# Altium integrated library Micron Memory Parallel NOR Flash.IntLib: 720 symbols (part 153 of 216)
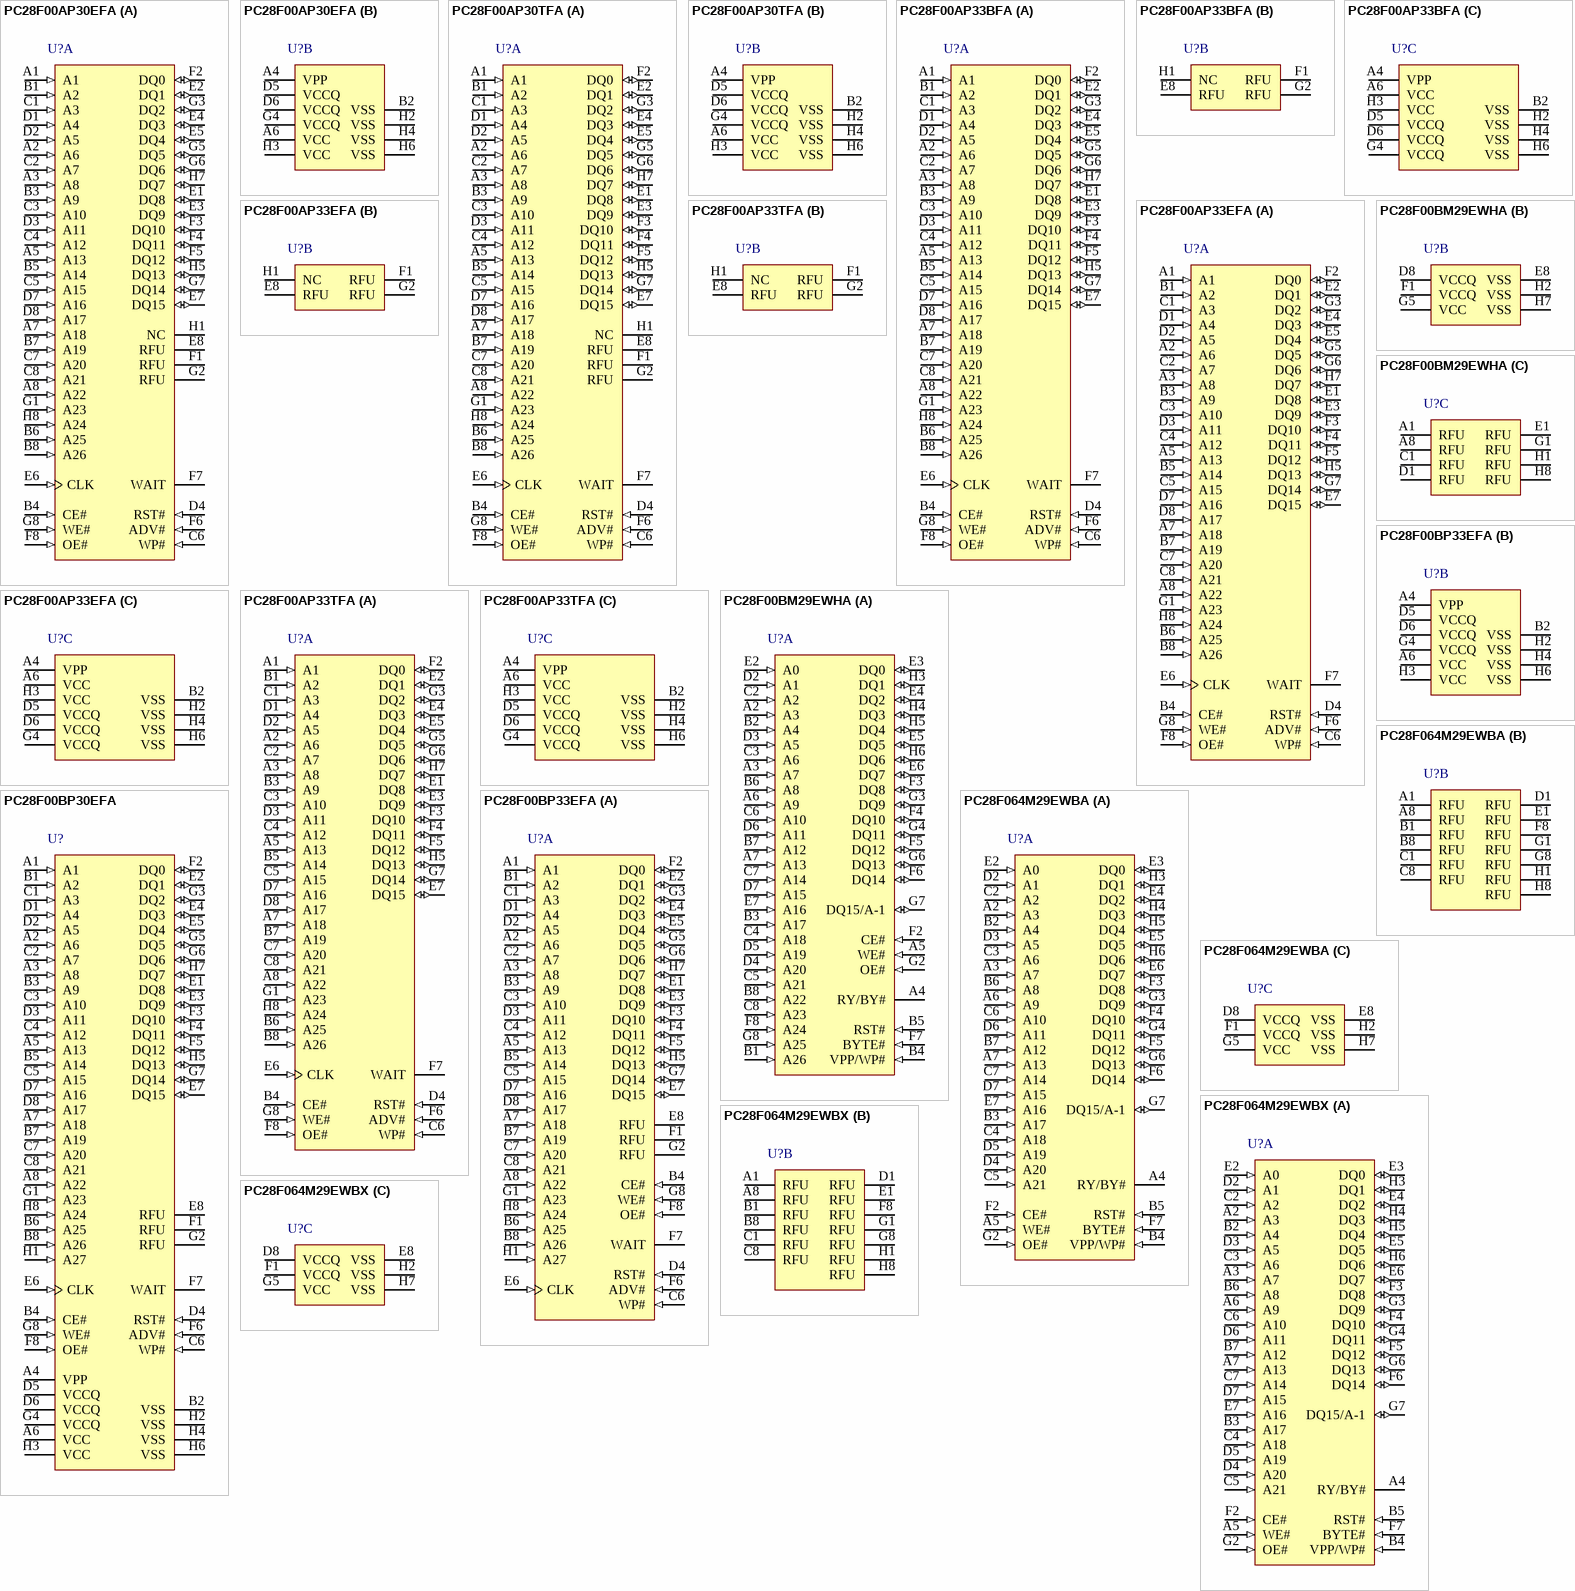
[diagram p187: symbols PC28F00AP30EFA to PC28F064M29EWBX]

## PC28F00AP30EFA
designator U?
1 Gb (x16) Parallel NOR Flash Memory, 100 ns, 1.7 to 2.0 V, 64-ball Easy BGA (PC), Tray; Part Family: P30; Manufacturer: Micron; PartNumber: PC28F00AP30EFA; Density: 1Gb; Op Temp: -40C to +85C; Speed: 100ns; Voltage: 1.7V-2.0V; DatasheetVersion: Rev.05; PackageVersion: Rev. 5; PackageReference: MICT-PC-64-8000X10000X1200DEA; PackageDescription: 64-Ball BGA, 8 x 10 mm, Pitch 1 mm; RoHS: Yes; Width: x16; Mounting Technology: Surface Mount; ComponentLink1Description: Manufacturer URL; ComponentLink1URL: http://www.micron.com/; ComponentLink2Description: Datasheet; ComponentLink2URL: http://www.micron.com/~/media/Documents/Products/Data%20Sheet/NOR%20Flash/Parallel/P30/208042_P30_65nm_MLC_512M_1G_Discrete_2G_Stack_DS.pdf; ComponentLink3Description: Package Specification; ComponentLink3URL: http://www.micron.com/~/media/Documents/Products/Data%20Sheet/NOR%20Flash/Parallel/P33/314749_P33_130nm_Discrete_DS.pdf
footprint MICT-PC-64-8000X10000X1200DEA (BGA, 64-Balls, Body 10x8mm, Pitch 1mm)
part A pins: A1 (in) "ADDRESS INPUTS: Device address inputs. 512-Mbit: A[25:1], 1-Gbit: A[26:1], 2-Gbit: A[27:1]. Note: The virtual selection of the upper 1-Gbit die in the dual-die 2-Gbit configuration is accomplished by setting A27 high (VIH).", A2 A6 (in) "ADDRESS INPUTS: Device address inputs. 512-Mbit: A[25:1], 1-Gbit: A[26:1], 2-Gbit: A[27:1]. Note: The virtual selection of the upper 1-Gbit die in the dual-die 2-Gbit configuration is accomplished by setting A27 high (VIH).", A3 A8 (in) "ADDRESS INPUTS: Device address inputs. 512-Mbit: A[25:1], 1-Gbit: A[26:1], 2-Gbit: A[27:1]. Note: The virtual selection of the upper 1-Gbit die in the dual-die 2-Gbit configuration is accomplished by setting A27 high (VIH).", A5 A13 (in) "ADDRESS INPUTS: Device address inputs. 512-Mbit: A[25:1], 1-Gbit: A[26:1], 2-Gbit: A[27:1]. Note: The virtual selection of the upper 1-Gbit die in the dual-die 2-Gbit configuration is accomplished by setting A27 high (VIH).", A7 A18 (in) "Address Input: Device Address Input. 512-Mbit: A[25:1], 1-Gbit: A[26:1], 2-Gbit: A[27:1]. Note: The virtual selection of the upper 1-Gbit die in the dual-die 2-Gbit configuration is accomplished by setting A27 high (VIH).", A8 A22 (in) "Address Input: Device Address Input. 512-Mbit: A[25:1], 1-Gbit: A[26:1], 2-Gbit: A[27:1]. Note: The virtual selection of the upper 1-Gbit die in the dual-die 2-Gbit configuration is accomplished by setting A27 high (VIH).", B1 A2 (in) "ADDRESS INPUTS: Device Address Input. 512-Mbit: A[25:1], 1-Gbit: A[26:1], 2-Gbit: A[27:1]. Note: The virtual selection of the upper 1-Gbit die in the dual-die 2-Gbit configuration is accomplished by setting A27 high (VIH).", B3 A9 (in) "ADDRESS INPUTS: Device address inputs. 512-Mbit: A[25:1], 1-Gbit: A[26:1], 2-Gbit: A[27:1]. Note: The virtual selection of the upper 1-Gbit die in the dual-die 2-Gbit configuration is accomplished by setting A27 high (VIH).", B4 CE# (in) "CHIP ENABLE: Active low input. CE# low selects the associated flash memory die. When asserted, flash internal control logic, input buffers, decoders, and sense amplifiers are active. When deasserted, the associated flash die (See Datasheet)", B5 A14 (in) "ADDRESS INPUTS: Device address inputs. 512-Mbit: A[25:1], 1-Gbit: A[26:1], 2-Gbit: A[27:1]. Note: The virtual selection of the upper 1-Gbit die in the dual-die 2-Gbit configuration is accomplished by setting A27 high (VIH).", B6 A25 (in) "Address Input: Device Address Input. 512-Mbit: A[25:1], 1-Gbit: A[26:1], 2-Gbit: A[27:1]. Note: The virtual selection of the upper 1-Gbit die in the dual-die 2-Gbit configuration is accomplished by setting A27 high (VIH).", B7 A19 (in) "Address Input: Device Address Input. 512-Mbit: A[25:1], 1-Gbit: A[26:1], 2-Gbit: A[27:1]. Note: The virtual selection of the upper 1-Gbit die in the dual-die 2-Gbit configuration is accomplished by setting A27 high (VIH).", B8 A26 (in) "Address Input: Device Address Input. 512-Mbit: A[25:1], 1-Gbit: A[26:1], 2-Gbit: A[27:1]. Note: The virtual selection of the upper 1-Gbit die in the dual-die 2-Gbit configuration is accomplished by setting A27 high (VIH).", C1 A3 (in) "ADDRESS INPUTS: Device address inputs. 512-Mbit: A[25:1], 1-Gbit: A[26:1], 2-Gbit: A[27:1]. Note: The virtual selection of the upper 1-Gbit die in the dual-die 2-Gbit configuration is accomplished by setting A27 high (VIH).", C2 A7 (in) "ADDRESS INPUTS: Device address inputs. 512-Mbit: A[25:1], 1-Gbit: A[26:1], 2-Gbit: A[27:1]. Note: The virtual selection of the upper 1-Gbit die in the dual-die 2-Gbit configuration is accomplished by setting A27 high (VIH).", C3 A10 (in) "ADDRESS INPUTS: Device address inputs. 512-Mbit: A[25:1], 1-Gbit: A[26:1], 2-Gbit: A[27:1]. Note: The virtual selection of the upper 1-Gbit die in the dual-die 2-Gbit configuration is accomplished by setting A27 high (VIH).", C4 A12 (in) "ADDRESS INPUTS: Device address inputs. 512-Mbit: A[25:1], 1-Gbit: A[26:1], 2-Gbit: A[27:1]. Note: The virtual selection of the upper 1-Gbit die in the dual-die 2-Gbit configuration is accomplished by setting A27 high (VIH).", C5 A15 (in) "Address Input: Device Address Input. 512-Mbit: A[25:1], 1-Gbit: A[26:1], 2-Gbit: A[27:1]. Note: The virtual selection of the upper 1-Gbit die in the dual-die 2-Gbit configuration is accomplished by setting A27 high (VIH).", C6 WP# (in) "WRITE PROTECT: Active low input. WP# low enables the lock-down mechanism. Blocks in lockdown cannot be unlocked with the Unlock command. WP# high overrides the lock-down function enabling blocks to be erased or programmed (See Datasheet)", C7 A20 (in) "Address Input: Device Address Input. 512-Mbit: A[25:1], 1-Gbit: A[26:1], 2-Gbit: A[27:1]. Note: The virtual selection of the upper 1-Gbit die in the dual-die 2-Gbit configuration is accomplished by setting A27 high (VIH).", C8 A21 (in) "Address Input: Device Address Input. 512-Mbit: A[25:1], 1-Gbit: A[26:1], 2-Gbit: A[27:1]. Note: The virtual selection of the upper 1-Gbit die in the dual-die 2-Gbit configuration is accomplished by setting A27 high (VIH).", D1 A4 (in) "ADDRESS INPUTS: Device address inputs. 512-Mbit: A[25:1], 1-Gbit: A[26:1], 2-Gbit: A[27:1]. Note: The virtual selection of the upper 1-Gbit die in the dual-die 2-Gbit configuration is accomplished by setting A27 high (VIH).", D2 A5 (in) "ADDRESS INPUTS: Device address inputs. 512-Mbit: A[25:1], 1-Gbit: A[26:1], 2-Gbit: A[27:1]. Note: The virtual selection of the upper 1-Gbit die in the dual-die 2-Gbit configuration is accomplished by setting A27 high (VIH).", D3 A11 (in) "ADDRESS INPUTS: Device address inputs. 512-Mbit: A[25:1], 1-Gbit: A[26:1], 2-Gbit: A[27:1]. Note: The virtual selection of the upper 1-Gbit die in the dual-die 2-Gbit configuration is accomplished by setting A27 high (VIH).", D4 RST# (in) "RESET: Active low input. RST# resets internal automation and inhibits write operations. This provides data protection during power transitions. RST# high enables normal operation. Exit from reset places the device in (See Datasheet)", D7 A16 (in) "Address Input: Device Address Input. 512-Mbit: A[25:1], 1-Gbit: A[26:1], 2-Gbit: A[27:1]. Note: The virtual selection of the upper 1-Gbit die in the dual-die 2-Gbit configuration is accomplished by setting A27 high (VIH).", D8 A17 (in) "Address Input: Device Address Input. 512-Mbit: A[25:1], 1-Gbit: A[26:1], 2-Gbit: A[27:1]. Note: The virtual selection of the upper 1-Gbit die in the dual-die 2-Gbit configuration is accomplished by setting A27 high (VIH).", E1 DQ8 (io) "DATA INPUT/OUTPUT: Inputs data and commands during write cycles; outputs data during reads of memory, Status Register, OTP Register, and Read Configuration Register. Data pins/balls float when the CE# or OE# are deasserted. (See Datasheet)", E2 DQ1 (io) "DATA INPUT/Output: Inputs data and commands during write cycles; Output data during reads of memory, Status Register, OTP Register, and Read Configuration Register. Data pins/balls float when the CE# or OE# are deasserted. (See Datasheet)", E3 DQ9 (io) "DATA INPUT/OUTPUT: Inputs data and commands during write cycles; outputs data during reads of memory, Status Register, OTP Register, and Read Configuration Register. Data pins/balls float when the CE# or OE# are deasserted. (See Datasheet)", E4 DQ3 (io) "DATA INPUT/OUTPUT: input data and commands during write cycles; outputs data during reads of memory, Status Register, OTP Register, and Read Configuration Register. Data pins/balls float when the CE# or OE# are deasserted. (See Datasheet)", E5 DQ4 (io) "DATA INPUT/OUTPUT: INPUT data and commands during write cycles; OUTPUT data during reads of memory, Status Register, OTP Register, and Read Configuration Register. Data pins/balls float when the CE# or OE# are deasserted. (See Datasheet)", E6 CLK (in) "CLOCK: Synchronizes the device with the system’s bus frequency in synchronous-read mode. During synchronous read operations, addresses are latched on the rising edge of ADV#, or on the next valid CLK edge with ADV# low, (See Datasheet)", E7 DQ15 (io) "DATA INPUT/OUTPUT: Inputs data and commands during write cycles; outputs data during reads of memory, Status Register, OTP Register, and Read Configuration Register. Data pins/balls float when the CE# or OE# are deasserted. (See Datasheet)", E8 RFU "RESERVED FOR FUTURE USE: Reserved by Numonyx for future device functionality and enhancement. These should be treated in the same way as a Don’t Use (DU) signal.", F1 RFU "RESERVED FOR FUTURE USE: Reserved by Numonyx for future device functionality and enhancement. These should be treated in the same way as a Don’t Use (DU) signal.", F2 DQ0 (io) "DATA INPUT/Output: Input data and commands during write cycles; Output data during reads of memory, Status Register, OTP Register, and Read Configuration Register. Data pins/balls float when the CE# or OE# are deasserted. (See Datasheet)", F3 DQ10 (io) "DATA INPUT/OUTPUT: Inputs data and commands during write cycles; outputs data during reads of memory, Status Register, OTP Register, and Read Configuration Register. Data pins/balls float when the CE# or OE# are deasserted. (See Datasheet)", F4 DQ11 (io) "DATA INPUT/OUTPUTS: Inputs data and commands during write cycles; outputs data during reads of memory, Status Register, OTP Register, and Read Configuration Register. Data pins/balls float when the CE# or OE# are deasserted. (See Datasheet)", F5 DQ12 (io) "DATA INPUT/OUTPUT: Inputs data and commands during write cycles; outputs data during reads of memory, Status Register, OTP Register, and Read Configuration Register. Data pins/balls float when the CE# or OE# are deasserted. (See Datasheet)", F6 ADV# (in) "ADDRESS VALID: Active low input. Easy BGA: During synchronous read operations, addresses are latched on the rising edge of ADV#, or on the next valid CLK edge with ADV# low, whichever occurs first. In asynchronous mode, ADV# (See Datasheet)", F7 WAIT (hiz) "WAIT: Indicates data valid in synchronous array or non-array burst reads. RCR.10, (WT) determines its polarity when asserted. WAIT’s active output is VOL or VOH when CE# and OE# are VIL. WAIT is high-Z if CE# or OE# is VIH. (See Datasheet)", F8 OE# (in) "OUTPUT ENABLE: Active low input. OE# low enables the device’s output data buffers during read cycles. OE# high places the data outputs and WAIT in High-Z.", G1 A23 (in) "Address Input: Device Address Input. 512-Mbit: A[25:1], 1-Gbit: A[26:1], 2-Gbit: A[27:1]. Note: The virtual selection of the upper 1-Gbit die in the dual-die 2-Gbit configuration is accomplished by setting A27 high (VIH).", G2 RFU "RESERVED FOR FUTURE USE: Reserved by Numonyx for future device functionality and enhancement. These should be treated in the same way as a Don’t Use (DU) signal.", G3 DQ2 (io) "DATA INPUT/OUTPUTS: Inputs data and commands during write cycles; outputs data during reads of memory, Status Register, OTP Register, and Read Configuration Register. Data pins/balls float when the CE# or OE# are deasserted. (See Datasheet)", G5 DQ5 (io) "DATA INPUT/OUTPUT: Inputs data and commands during write cycles; outputs data during reads of memory, Status Register, OTP Register, and Read Configuration Register. Data pins/balls float when the CE# or OE# are deasserted. (See Datasheet)", G6 DQ6 (io) "DATA INPUT/OUTPUT: Inputs data and commands during write cycles; outputs data during reads of memory, Status Register, OTP Register, and Read Configuration Register. Data pins/balls float when the CE# or OE# are deasserted. (See Datasheet)", G7 DQ14 (io) "DATA INPUT/OUTPUT: Inputs data and commands during write cycles; outputs data during reads of memory, Status Register, OTP Register, and Read Configuration Register. Data pins/balls float when the CE# or OE# are deasserted. (See Datasheet)", G8 WE# (in) "WRITE ENABLE: Active low input. WE# controls writes to the device. Address and data are latched on the rising edge of WE#.", H1 NC "No connect.", H5 DQ13 (io) "DATA INPUT/OUTPUT: Inputs data and commands during write cycles; outputs data during reads of memory, Status Register, OTP Register, and Read Configuration Register. Data pins/balls float when the CE# or OE# are deasserted. (See Datasheet)", H7 DQ7 (io) "DATA INPUT/OUTPUT: Inputs data and commands during write cycles; outputs data during reads of memory, Status Register, OTP Register, and Read Configuration Register. Data pins/balls float when the CE# or OE# are deasserted. (See Datasheet)", H8 A24 (in) "Address Input: Device Address Input. 512-Mbit: A[25:1], 1-Gbit: A[26:1], 2-Gbit: A[27:1]. Note: The virtual selection of the upper 1-Gbit die in the dual-die 2-Gbit configuration is accomplished by setting A27 high (VIH)."
part B pins: A4 VPP (power) "ERASE AND PROGRAM POWER: A valid voltage on this pin allows erasing or programming. Memory contents cannot be altered when VPP =< VPPLK. Block erase and program at invalid VPP voltages should not be attempted. Set VPP = VPPL (See Datasheet)", A6 VCC (power) "DEVICE CORE POWER SUPPLY: Core (logic) source voltage. Writes to the flash array are inhibited when VCC =< VLKO. Operations at invalid VCC voltages should not be attempted.", B2 VSS (power) "GROUND: Connect to system ground. Do not float any VSS connection.", D5 VCCQ (power) "OUTPUT POWER SUPPLY: Output-driver source voltage.", D6 VCCQ (power) "OUTPUT POWER SUPPLY: Output-driver source voltage.", G4 VCCQ (power) "OUTPUT POWER SUPPLY: Output-driver source voltage.", H2 VSS (power) "GROUND: Connect to system ground. Do not float any VSS connection.", H3 VCC (power) "DEVICE CORE POWER SUPPLY: Core (logic) source voltage. Writes to the flash array are inhibited when VCC =< VLKO. Operations at invalid VCC voltages should not be attempted.", H4 VSS (power) "GROUND: Connect to system ground. Do not float any VSS connection.", H6 VSS (power) "GROUND: Connect to system ground. Do not float any VSS connection."

## PC28F00AP30TFA
designator U?
1 Gb (x16) Parallel NOR Flash Memory, 100 ns, 1.7 to 2.0 V, 64-ball Easy BGA (PC), Tray; Part Family: P30; Manufacturer: Micron; PartNumber: PC28F00AP30TFA; Density: 1Gb; Op Temp: -40C to +85C; Speed: 100ns; Voltage: 1.7V-2.0V; DatasheetVersion: Rev.05; PackageVersion: Rev. 5; PackageReference: MICT-PC-64-8000X10000X1200DEA; PackageDescription: 64-Ball BGA, 8 x 10 mm, Pitch 1 mm; RoHS: Yes; Width: x16; Mounting Technology: Surface Mount; ComponentLink1Description: Manufacturer URL; ComponentLink1URL: http://www.micron.com/; ComponentLink2Description: Datasheet; ComponentLink2URL: http://www.micron.com/~/media/Documents/Products/Data%20Sheet/NOR%20Flash/Parallel/P30/208042_P30_65nm_MLC_512M_1G_Discrete_2G_Stack_DS.pdf; ComponentLink3Description: Package Specification; ComponentLink3URL: http://www.micron.com/~/media/Documents/Products/Data%20Sheet/NOR%20Flash/Parallel/P33/314749_P33_130nm_Discrete_DS.pdf
footprint MICT-PC-64-8000X10000X1200DEA (BGA, 64-Balls, Body 10x8mm, Pitch 1mm)
part A pins: A1 (in) "ADDRESS INPUTS: Device address inputs. 512-Mbit: A[25:1], 1-Gbit: A[26:1], 2-Gbit: A[27:1]. Note: The virtual selection of the upper 1-Gbit die in the dual-die 2-Gbit configuration is accomplished by setting A27 high (VIH).", A2 A6 (in) "ADDRESS INPUTS: Device address inputs. 512-Mbit: A[25:1], 1-Gbit: A[26:1], 2-Gbit: A[27:1]. Note: The virtual selection of the upper 1-Gbit die in the dual-die 2-Gbit configuration is accomplished by setting A27 high (VIH).", A3 A8 (in) "ADDRESS INPUTS: Device address inputs. 512-Mbit: A[25:1], 1-Gbit: A[26:1], 2-Gbit: A[27:1]. Note: The virtual selection of the upper 1-Gbit die in the dual-die 2-Gbit configuration is accomplished by setting A27 high (VIH).", A5 A13 (in) "ADDRESS INPUTS: Device address inputs. 512-Mbit: A[25:1], 1-Gbit: A[26:1], 2-Gbit: A[27:1]. Note: The virtual selection of the upper 1-Gbit die in the dual-die 2-Gbit configuration is accomplished by setting A27 high (VIH).", A7 A18 (in) "Address Input: Device Address Input. 512-Mbit: A[25:1], 1-Gbit: A[26:1], 2-Gbit: A[27:1]. Note: The virtual selection of the upper 1-Gbit die in the dual-die 2-Gbit configuration is accomplished by setting A27 high (VIH).", A8 A22 (in) "Address Input: Device Address Input. 512-Mbit: A[25:1], 1-Gbit: A[26:1], 2-Gbit: A[27:1]. Note: The virtual selection of the upper 1-Gbit die in the dual-die 2-Gbit configuration is accomplished by setting A27 high (VIH).", B1 A2 (in) "ADDRESS INPUTS: Device Address Input. 512-Mbit: A[25:1], 1-Gbit: A[26:1], 2-Gbit: A[27:1]. Note: The virtual selection of the upper 1-Gbit die in the dual-die 2-Gbit configuration is accomplished by setting A27 high (VIH).", B3 A9 (in) "ADDRESS INPUTS: Device address inputs. 512-Mbit: A[25:1], 1-Gbit: A[26:1], 2-Gbit: A[27:1]. Note: The virtual selection of the upper 1-Gbit die in the dual-die 2-Gbit configuration is accomplished by setting A27 high (VIH).", B4 CE# (in) "CHIP ENABLE: Active low input. CE# low selects the associated flash memory die. When asserted, flash internal control logic, input buffers, decoders, and sense amplifiers are active. When deasserted, the associated flash die (See Datasheet)", B5 A14 (in) "ADDRESS INPUTS: Device address inputs. 512-Mbit: A[25:1], 1-Gbit: A[26:1], 2-Gbit: A[27:1]. Note: The virtual selection of the upper 1-Gbit die in the dual-die 2-Gbit configuration is accomplished by setting A27 high (VIH).", B6 A25 (in) "Address Input: Device Address Input. 512-Mbit: A[25:1], 1-Gbit: A[26:1], 2-Gbit: A[27:1]. Note: The virtual selection of the upper 1-Gbit die in the dual-die 2-Gbit configuration is accomplished by setting A27 high (VIH).", B7 A19 (in) "Address Input: Device Address Input. 512-Mbit: A[25:1], 1-Gbit: A[26:1], 2-Gbit: A[27:1]. Note: The virtual selection of the upper 1-Gbit die in the dual-die 2-Gbit configuration is accomplished by setting A27 high (VIH).", B8 A26 (in) "Address Input: Device Address Input. 512-Mbit: A[25:1], 1-Gbit: A[26:1], 2-Gbit: A[27:1]. Note: The virtual selection of the upper 1-Gbit die in the dual-die 2-Gbit configuration is accomplished by setting A27 high (VIH).", C1 A3 (in) "ADDRESS INPUTS: Device address inputs. 512-Mbit: A[25:1], 1-Gbit: A[26:1], 2-Gbit: A[27:1]. Note: The virtual selection of the upper 1-Gbit die in the dual-die 2-Gbit configuration is accomplished by setting A27 high (VIH).", C2 A7 (in) "ADDRESS INPUTS: Device address inputs. 512-Mbit: A[25:1], 1-Gbit: A[26:1], 2-Gbit: A[27:1]. Note: The virtual selection of the upper 1-Gbit die in the dual-die 2-Gbit configuration is accomplished by setting A27 high (VIH).", C3 A10 (in) "ADDRESS INPUTS: Device address inputs. 512-Mbit: A[25:1], 1-Gbit: A[26:1], 2-Gbit: A[27:1]. Note: The virtual selection of the upper 1-Gbit die in the dual-die 2-Gbit configuration is accomplished by setting A27 high (VIH).", C4 A12 (in) "ADDRESS INPUTS: Device address inputs. 512-Mbit: A[25:1], 1-Gbit: A[26:1], 2-Gbit: A[27:1]. Note: The virtual selection of the upper 1-Gbit die in the dual-die 2-Gbit configuration is accomplished by setting A27 high (VIH).", C5 A15 (in) "Address Input: Device Address Input. 512-Mbit: A[25:1], 1-Gbit: A[26:1], 2-Gbit: A[27:1]. Note: The virtual selection of the upper 1-Gbit die in the dual-die 2-Gbit configuration is accomplished by setting A27 high (VIH).", C6 WP# (in) "WRITE PROTECT: Active low input. WP# low enables the lock-down mechanism. Blocks in lockdown cannot be unlocked with the Unlock command. WP# high overrides the lock-down function enabling blocks to be erased or programmed (See Datasheet)", C7 A20 (in) "Address Input: Device Address Input. 512-Mbit: A[25:1], 1-Gbit: A[26:1], 2-Gbit: A[27:1]. Note: The virtual selection of the upper 1-Gbit die in the dual-die 2-Gbit configuration is accomplished by setting A27 high (VIH).", C8 A21 (in) "Address Input: Device Address Input. 512-Mbit: A[25:1], 1-Gbit: A[26:1], 2-Gbit: A[27:1]. Note: The virtual selection of the upper 1-Gbit die in the dual-die 2-Gbit configuration is accomplished by setting A27 high (VIH).", D1 A4 (in) "ADDRESS INPUTS: Device address inputs. 512-Mbit: A[25:1], 1-Gbit: A[26:1], 2-Gbit: A[27:1]. Note: The virtual selection of the upper 1-Gbit die in the dual-die 2-Gbit configuration is accomplished by setting A27 high (VIH).", D2 A5 (in) "ADDRESS INPUTS: Device address inputs. 512-Mbit: A[25:1], 1-Gbit: A[26:1], 2-Gbit: A[27:1]. Note: The virtual selection of the upper 1-Gbit die in the dual-die 2-Gbit configuration is accomplished by setting A27 high (VIH).", D3 A11 (in) "ADDRESS INPUTS: Device address inputs. 512-Mbit: A[25:1], 1-Gbit: A[26:1], 2-Gbit: A[27:1]. Note: The virtual selection of the upper 1-Gbit die in the dual-die 2-Gbit configuration is accomplished by setting A27 high (VIH).", D4 RST# (in) "RESET: Active low input. RST# resets internal automation and inhibits write operations. This provides data protection during power transitions. RST# high enables normal operation. Exit from reset places the device in (See Datasheet)", D7 A16 (in) "Address Input: Device Address Input. 512-Mbit: A[25:1], 1-Gbit: A[26:1], 2-Gbit: A[27:1]. Note: The virtual selection of the upper 1-Gbit die in the dual-die 2-Gbit configuration is accomplished by setting A27 high (VIH).", D8 A17 (in) "Address Input: Device Address Input. 512-Mbit: A[25:1], 1-Gbit: A[26:1], 2-Gbit: A[27:1]. Note: The virtual selection of the upper 1-Gbit die in the dual-die 2-Gbit configuration is accomplished by setting A27 high (VIH).", E1 DQ8 (io) "DATA INPUT/OUTPUT: Inputs data and commands during write cycles; outputs data during reads of memory, Status Register, OTP Register, and Read Configuration Register. Data pins/balls float when the CE# or OE# are deasserted. (See Datasheet)", E2 DQ1 (io) "DATA INPUT/Output: Inputs data and commands during write cycles; Output data during reads of memory, Status Register, OTP Register, and Read Configuration Register. Data pins/balls float when the CE# or OE# are deasserted. (See Datasheet)", E3 DQ9 (io) "DATA INPUT/OUTPUT: Inputs data and commands during write cycles; outputs data during reads of memory, Status Register, OTP Register, and Read Configuration Register. Data pins/balls float when the CE# or OE# are deasserted. (See Datasheet)", E4 DQ3 (io) "DATA INPUT/OUTPUT: input data and commands during write cycles; outputs data during reads of memory, Status Register, OTP Register, and Read Configuration Register. Data pins/balls float when the CE# or OE# are deasserted. (See Datasheet)", E5 DQ4 (io) "DATA INPUT/OUTPUT: INPUT data and commands during write cycles; OUTPUT data during reads of memory, Status Register, OTP Register, and Read Configuration Register. Data pins/balls float when the CE# or OE# are deasserted. (See Datasheet)", E6 CLK (in) "CLOCK: Synchronizes the device with the system’s bus frequency in synchronous-read mode. During synchronous read operations, addresses are latched on the rising edge of ADV#, or on the next valid CLK edge with ADV# low, (See Datasheet)", E7 DQ15 (io) "DATA INPUT/OUTPUT: Inputs data and commands during write cycles; outputs data during reads of memory, Status Register, OTP Register, and Read Configuration Register. Data pins/balls float when the CE# or OE# are deasserted. (See Datasheet)", E8 RFU "RESERVED FOR FUTURE USE: Reserved by Numonyx for future device functionality and enhancement. These should be treated in the same way as a Don’t Use (DU) signal.", F1 RFU "RESERVED FOR FUTURE USE: Reserved by Numonyx for future device functionality and enhancement. These should be treated in the same way as a Don’t Use (DU) signal.", F2 DQ0 (io) "DATA INPUT/Output: Input data and commands during write cycles; Output data during reads of memory, Status Register, OTP Register, and Read Configuration Register. Data pins/balls float when the CE# or OE# are deasserted. (See Datasheet)", F3 DQ10 (io) "DATA INPUT/OUTPUT: Inputs data and commands during write cycles; outputs data during reads of memory, Status Register, OTP Register, and Read Configuration Register. Data pins/balls float when the CE# or OE# are deasserted. (See Datasheet)", F4 DQ11 (io) "DATA INPUT/OUTPUTS: Inputs data and commands during write cycles; outputs data during reads of memory, Status Register, OTP Register, and Read Configuration Register. Data pins/balls float when the CE# or OE# are deasserted. (See Datasheet)", F5 DQ12 (io) "DATA INPUT/OUTPUT: Inputs data and commands during write cycles; outputs data during reads of memory, Status Register, OTP Register, and Read Configuration Register. Data pins/balls float when the CE# or OE# are deasserted. (See Datasheet)", F6 ADV# (in) "ADDRESS VALID: Active low input. Easy BGA: During synchronous read operations, addresses are latched on the rising edge of ADV#, or on the next valid CLK edge with ADV# low, whichever occurs first. In asynchronous mode, ADV# (See Datasheet)", F7 WAIT (hiz) "WAIT: Indicates data valid in synchronous array or non-array burst reads. RCR.10, (WT) determines its polarity when asserted. WAIT’s active output is VOL or VOH when CE# and OE# are VIL. WAIT is high-Z if CE# or OE# is VIH. (See Datasheet)", F8 OE# (in) "OUTPUT ENABLE: Active low input. OE# low enables the device’s output data buffers during read cycles. OE# high places the data outputs and WAIT in High-Z.", G1 A23 (in) "Address Input: Device Address Input. 512-Mbit: A[25:1], 1-Gbit: A[26:1], 2-Gbit: A[27:1]. Note: The virtual selection of the upper 1-Gbit die in the dual-die 2-Gbit configuration is accomplished by setting A27 high (VIH).", G2 RFU "RESERVED FOR FUTURE USE: Reserved by Numonyx for future device functionality and enhancement. These should be treated in the same way as a Don’t Use (DU) signal.", G3 DQ2 (io) "DATA INPUT/OUTPUTS: Inputs data and commands during write cycles; outputs data during reads of memory, Status Register, OTP Register, and Read Configuration Register. Data pins/balls float when the CE# or OE# are deasserted. (See Datasheet)", G5 DQ5 (io) "DATA INPUT/OUTPUT: Inputs data and commands during write cycles; outputs data during reads of memory, Status Register, OTP Register, and Read Configuration Register. Data pins/balls float when the CE# or OE# are deasserted. (See Datasheet)", G6 DQ6 (io) "DATA INPUT/OUTPUT: Inputs data and commands during write cycles; outputs data during reads of memory, Status Register, OTP Register, and Read Configuration Register. Data pins/balls float when the CE# or OE# are deasserted. (See Datasheet)", G7 DQ14 (io) "DATA INPUT/OUTPUT: Inputs data and commands during write cycles; outputs data during reads of memory, Status Register, OTP Register, and Read Configuration Register. Data pins/balls float when the CE# or OE# are deasserted. (See Datasheet)", G8 WE# (in) "WRITE ENABLE: Active low input. WE# controls writes to the device. Address and data are latched on the rising edge of WE#.", H1 NC "No connect.", H5 DQ13 (io) "DATA INPUT/OUTPUT: Inputs data and commands during write cycles; outputs data during reads of memory, Status Register, OTP Register, and Read Configuration Register. Data pins/balls float when the CE# or OE# are deasserted. (See Datasheet)", H7 DQ7 (io) "DATA INPUT/OUTPUT: Inputs data and commands during write cycles; outputs data during reads of memory, Status Register, OTP Register, and Read Configuration Register. Data pins/balls float when the CE# or OE# are deasserted. (See Datasheet)", H8 A24 (in) "Address Input: Device Address Input. 512-Mbit: A[25:1], 1-Gbit: A[26:1], 2-Gbit: A[27:1]. Note: The virtual selection of the upper 1-Gbit die in the dual-die 2-Gbit configuration is accomplished by setting A27 high (VIH)."
part B pins: A4 VPP (power) "ERASE AND PROGRAM POWER: A valid voltage on this pin allows erasing or programming. Memory contents cannot be altered when VPP =< VPPLK. Block erase and program at invalid VPP voltages should not be attempted. Set VPP = VPPL (See Datasheet)", A6 VCC (power) "DEVICE CORE POWER SUPPLY: Core (logic) source voltage. Writes to the flash array are inhibited when VCC =< VLKO. Operations at invalid VCC voltages should not be attempted.", B2 VSS (power) "GROUND: Connect to system ground. Do not float any VSS connection.", D5 VCCQ (power) "OUTPUT POWER SUPPLY: Output-driver source voltage.", D6 VCCQ (power) "OUTPUT POWER SUPPLY: Output-driver source voltage.", G4 VCCQ (power) "OUTPUT POWER SUPPLY: Output-driver source voltage.", H2 VSS (power) "GROUND: Connect to system ground. Do not float any VSS connection.", H3 VCC (power) "DEVICE CORE POWER SUPPLY: Core (logic) source voltage. Writes to the flash array are inhibited when VCC =< VLKO. Operations at invalid VCC voltages should not be attempted.", H4 VSS (power) "GROUND: Connect to system ground. Do not float any VSS connection.", H6 VSS (power) "GROUND: Connect to system ground. Do not float any VSS connection."

## PC28F00AP33BFA
designator U?
1 Gb (x16) Parallel NOR Flash Memory, 95 ns, 2.3 to 3.6 V, 64-ball Easy BGA (PC), Tray; Part Family: P33; Manufacturer: Micron; PartNumber: PC28F00AP33BFA; Density: 1Gb; Op Temp: -40C to +85C; Speed: 95ns; Voltage: 2.3V-3.6V; DatasheetVersion: Rev.05; PackageVersion: Rev. 5; PackageReference: MICT-PC-64-8000X10000X1200DEA; PackageDescription: 64-Ball BGA, 8 x 10 mm, Pitch 1 mm; RoHS: Yes; Width: x16; Mounting Technology: Surface Mount; ComponentLink1Description: Manufacturer URL; ComponentLink1URL: http://www.micron.com/; ComponentLink2Description: Datasheet; ComponentLink2URL: http://www.micron.com/~/media/Documents/Products/Data%20Sheet/NOR%20Flash/Parallel/P33/208043_P33_65nm_MLC_512M_1G_Discrete_2G_Stack_DS.pdf; ComponentLink3Description: Package Specification; ComponentLink3URL: http://www.micron.com/~/media/Documents/Products/Data%20Sheet/NOR%20Flash/Parallel/P33/314749_P33_130nm_Discrete_DS.pdf
footprint MICT-PC-64-8000X10000X1200DEA (BGA, 64-Balls, Body 10x8mm, Pitch 1mm)
part A pins: A1 (in) "Address Input: Device Address Input. 512-Mbit: A[25:1], 1-Gbit: A[26:1], 2-Gbit: A[27:1]. Note: The virtual selection of the upper 1-Gbit die in the dual-die 2-Gbit configuration is accomplished by setting A27 high (VIH).", A2 A6 (in) "Address Input: Device Address Input. 512-Mbit: A[25:1], 1-Gbit: A[26:1], 2-Gbit: A[27:1]. Note: The virtual selection of the upper 1-Gbit die in the dual-die 2-Gbit configuration is accomplished by setting A27 high (VIH).", A3 A8 (in) "Address Input: Device Address Input. 512-Mbit: A[25:1], 1-Gbit: A[26:1], 2-Gbit: A[27:1]. Note: The virtual selection of the upper 1-Gbit die in the dual-die 2-Gbit configuration is accomplished by setting A27 high (VIH).", A5 A13 (in) "Address Input: Device Address Input. 512-Mbit: A[25:1], 1-Gbit: A[26:1], 2-Gbit: A[27:1]. Note: The virtual selection of the upper 1-Gbit die in the dual-die 2-Gbit configuration is accomplished by setting A27 high (VIH).", A7 A18 (in) "Address Input: Device Address Input. 512-Mbit: A[25:1], 1-Gbit: A[26:1], 2-Gbit: A[27:1]. Note: The virtual selection of the upper 1-Gbit die in the dual-die 2-Gbit configuration is accomplished by setting A27 high (VIH).", A8 A22 (in) "Address Input: Device Address Input. 512-Mbit: A[25:1], 1-Gbit: A[26:1], 2-Gbit: A[27:1]. Note: The virtual selection of the upper 1-Gbit die in the dual-die 2-Gbit configuration is accomplished by setting A27 high (VIH).", B1 A2 (in) "Address Input: Device Address Input. 512-Mbit: A[25:1], 1-Gbit: A[26:1], 2-Gbit: A[27:1]. Note: The virtual selection of the upper 1-Gbit die in the dual-die 2-Gbit configuration is accomplished by setting A27 high (VIH).", B3 A9 (in) "Address Input: Device Address Input. 512-Mbit: A[25:1], 1-Gbit: A[26:1], 2-Gbit: A[27:1]. Note: The virtual selection of the upper 1-Gbit die in the dual-die 2-Gbit configuration is accomplished by setting A27 high (VIH).", B4 CE# (in) "CHIP ENABLE: Active low input. CE# low selects the associated flash memory die. When asserted, flash internal control logic, input buffers, decoders, and sense amplifiers are active. When deasserted, the associated flash die (See Datasheet)", B5 A14 (in) "Address Input: Device Address Input. 512-Mbit: A[25:1], 1-Gbit: A[26:1], 2-Gbit: A[27:1]. Note: The virtual selection of the upper 1-Gbit die in the dual-die 2-Gbit configuration is accomplished by setting A27 high (VIH).", B6 A25 (in) "Address Input: Device Address Input. 512-Mbit: A[25:1], 1-Gbit: A[26:1], 2-Gbit: A[27:1]. Note: The virtual selection of the upper 1-Gbit die in the dual-die 2-Gbit configuration is accomplished by setting A27 high (VIH).", B7 A19 (in) "Address Input: Device Address Input. 512-Mbit: A[25:1], 1-Gbit: A[26:1], 2-Gbit: A[27:1]. Note: The virtual selection of the upper 1-Gbit die in the dual-die 2-Gbit configuration is accomplished by setting A27 high (VIH).", B8 A26 (in) "Address Input: Device Address Input. 512-Mbit: A[25:1], 1-Gbit: A[26:1], 2-Gbit: A[27:1]. Note: The virtual selection of the upper 1-Gbit die in the dual-die 2-Gbit configuration is accomplished by setting A27 high (VIH).", C1 A3 (in) "Address Input: Device Address Input. 512-Mbit: A[25:1], 1-Gbit: A[26:1], 2-Gbit: A[27:1]. Note: The virtual selection of the upper 1-Gbit die in the dual-die 2-Gbit configuration is accomplished by setting A27 high (VIH).", C2 A7 (in) "Address Input: Device Address Input. 512-Mbit: A[25:1], 1-Gbit: A[26:1], 2-Gbit: A[27:1]. Note: The virtual selection of the upper 1-Gbit die in the dual-die 2-Gbit configuration is accomplished by setting A27 high (VIH).", C3 A10 (in) "Address Input: Device Address Input. 512-Mbit: A[25:1], 1-Gbit: A[26:1], 2-Gbit: A[27:1]. Note: The virtual selection of the upper 1-Gbit die in the dual-die 2-Gbit configuration is accomplished by setting A27 high (VIH).", C4 A12 (in) "Address Input: Device Address Input. 512-Mbit: A[25:1], 1-Gbit: A[26:1], 2-Gbit: A[27:1]. Note: The virtual selection of the upper 1-Gbit die in the dual-die 2-Gbit configuration is accomplished by setting A27 high (VIH).", C5 A15 (in) "Address Input: Device Address Input. 512-Mbit: A[25:1], 1-Gbit: A[26:1], 2-Gbit: A[27:1]. Note: The virtual selection of the upper 1-Gbit die in the dual-die 2-Gbit configuration is accomplished by setting A27 high (VIH).", C6 WP# (in) "WRITE PROTECT: Active low input. WP# low enables the lock-down mechanism. Blocks in lockdown cannot be unlocked with the Unlock command. WP# high overrides the lock-down function enabling blocks to be erased or programmed (See Datasheet)", C7 A20 (in) "Address Input: Device Address Input. 512-Mbit: A[25:1], 1-Gbit: A[26:1], 2-Gbit: A[27:1]. Note: The virtual selection of the upper 1-Gbit die in the dual-die 2-Gbit configuration is accomplished by setting A27 high (VIH).", C8 A21 (in) "Address Input: Device Address Input. 512-Mbit: A[25:1], 1-Gbit: A[26:1], 2-Gbit: A[27:1]. Note: The virtual selection of the upper 1-Gbit die in the dual-die 2-Gbit configuration is accomplished by setting A27 high (VIH).", D1 A4 (in) "Address Input: Device Address Input. 512-Mbit: A[25:1], 1-Gbit: A[26:1], 2-Gbit: A[27:1]. Note: The virtual selection of the upper 1-Gbit die in the dual-die 2-Gbit configuration is accomplished by setting A27 high (VIH).", D2 A5 (in) "Address Input: Device Address Input. 512-Mbit: A[25:1], 1-Gbit: A[26:1], 2-Gbit: A[27:1]. Note: The virtual selection of the upper 1-Gbit die in the dual-die 2-Gbit configuration is accomplished by setting A27 high (VIH).", D3 A11 (in) "Address Input: Device Address Input. 512-Mbit: A[25:1], 1-Gbit: A[26:1], 2-Gbit: A[27:1]. Note: The virtual selection of the upper 1-Gbit die in the dual-die 2-Gbit configuration is accomplished by setting A27 high (VIH).", D4 RST# (in) "RESET: Active low input. RST# resets internal automation and inhibits write operations. This provides data protection during power transitions. RST# high enables normal operation. Exit from reset places the device in (See Datasheet)", D7 A16 (in) "Address Input: Device Address Input. 512-Mbit: A[25:1], 1-Gbit: A[26:1], 2-Gbit: A[27:1]. Note: The virtual selection of the upper 1-Gbit die in the dual-die 2-Gbit configuration is accomplished by setting A27 high (VIH).", D8 A17 (in) "Address Input: Device Address Input. 512-Mbit: A[25:1], 1-Gbit: A[26:1], 2-Gbit: A[27:1]. Note: The virtual selection of the upper 1-Gbit die in the dual-die 2-Gbit configuration is accomplished by setting A27 high (VIH).", E1 DQ8 (io) "DATA INPUT/OUTPUT: Inputs data and commands during write cycles; outputs data during reads of memory, Status Register, OTP Register, and Read Configuration Register. Data balls/pins float when the CE# or OE# are deasserted. (See Datasheet)", E2 DQ1 (io) "DATA INPUT/Output: Inputs data and commands during write cycles; Output data during reads of memory, Status Register, OTP Register, and Read Configuration Register. Data balls/pins float when the CE# or OE# are deasserted. (See Datasheet)", E3 DQ9 (io) "DATA INPUT/OUTPUT: Inputs data and commands during write cycles; outputs data during reads of memory, Status Register, OTP Register, and Read Configuration Register. Data balls/pins float when the CE# or OE# are deasserted. (See Datasheet)", E4 DQ3 (io) "DATA INPUT/OUTPUT: input data and commands during write cycles; outputs data during reads of memory, Status Register, OTP Register, and Read Configuration Register. Data balls/pins float when the CE# or OE# are deasserted. (See Datasheet)", E5 DQ4 (io) "DATA INPUT/OUTPUT: INPUT data and commands during write cycles; OUTPUT data during reads of memory, Status Register, OTP Register, and Read Configuration Register. Data balls/pins float when the CE# or OE# are deasserted. (See Datasheet)", E6 CLK (in) "CLOCK: Synchronizes the device with the system’s bus frequency in synchronous-read mode. During synchronous read operations, addresses are latched on the rising edge of ADV#, or on the next valid CLK edge with ADV# low, (See Datasheet)", E7 DQ15 (io) "DATA INPUT/OUTPUT: Inputs data and commands during write cycles; outputs data during reads of memory, Status Register, OTP Register, and Read Configuration Register. Data balls/pins float when the CE# or OE# are deasserted. (See Datasheet)", F2 DQ0 (io) "DATA INPUT/Output: Input data and commands during write cycles; Output data during reads of memory, Status Register, OTP Register, and Read Configuration Register. Data balls/pins float when the CE# or OE# are deasserted. (See Datasheet)", F3 DQ10 (io) "DATA INPUT/OUTPUT: Inputs data and commands during write cycles; outputs data during reads of memory, Status Register, OTP Register, and Read Configuration Register. Data balls/pins float when the CE# or OE# are deasserted. (See Datasheet)", F4 DQ11 (io) "DATA INPUT/OUTPUTS: Inputs data and commands during write cycles; outputs data during reads of memory, Status Register, OTP Register, and Read Configuration Register. Data balls/pins float when the CE# or OE# are deasserted. (See Datasheet)", F5 DQ12 (io) "DATA INPUT/OUTPUT: Inputs data and commands during write cycles; outputs data during reads of memory, Status Register, OTP Register, and Read Configuration Register. Data balls/pins float when the CE# or OE# are deasserted. (See Datasheet)", F6 ADV# (in) "ADDRESS VALID: Active low input. Easy BGA: During synchronous read operations, addresses are latched on the rising edge of ADV#, or on the next valid CLK edge with ADV# low, whichever occurs first. In asynchronous mode, ADV# (See Datasheet)", F7 WAIT (hiz) "WAIT: Indicates data valid in synchronous array or non-array burst reads. RCR.10, (WT) determines its polarity when asserted. WAIT’s active output is VOL or VOH when CE# and OE# are VIL. WAIT is high-Z if CE# or OE# is VIH. (See Datasheet)", F8 OE# (in) "OUTPUT ENABLE: Active low input. OE# low enables the device’s output data buffers during read cycles. OE# high places the data outputs and WAIT in High-Z.", G1 A23 (in) "Address Input: Device Address Input. 512-Mbit: A[25:1], 1-Gbit: A[26:1], 2-Gbit: A[27:1]. Note: The virtual selection of the upper 1-Gbit die in the dual-die 2-Gbit configuration is accomplished by setting A27 high (VIH).", G3 DQ2 (io) "DATA INPUT/Output: Input data and commands during write cycles; Output data during reads of memory, Status Register, OTP Register, and Read Configuration Register. Data balls/pins float when the CE# or OE# are deasserted. (See Datasheet)", G5 DQ5 (io) "DATA INPUT/OUTPUT: Inputs data and commands during write cycles; outputs data during reads of memory, Status Register, OTP Register, and Read Configuration Register. Data balls/pins float when the CE# or OE# are deasserted. (See Datasheet)", G6 DQ6 (io) "DATA INPUT/OUTPUT: Inputs data and commands during write cycles; outputs data during", G7 DQ14 (io) "DATA INPUT/OUTPUT: Inputs data and commands during write cycles; outputs data during reads of memory, Status Register, OTP Register, and Read Configuration Register. Data balls/pins float when the CE# or OE# are deasserted. (See Datasheet)", G8 WE# (in) "WRITE ENABLE: Active low input. WE# controls writes to the device. Address and data are latched on the rising edge of WE#.", H5 DQ13 (io) "DATA INPUT/OUTPUT: Inputs data and commands during write cycles; outputs data during reads of memory, Status Register, OTP Register, and Read Configuration Register. Data balls/pins float when the CE# or OE# are deasserted. (See Datasheet)", H7 DQ7 (io) "DATA INPUT/OUTPUT: Inputs data and commands during write cycles; outputs data during reads of memory, Status Register, OTP Register, and Read Configuration Register. Data balls/pins float when the CE# or OE# are deasserted. (See Datasheet)", H8 A24 (in) "Address Input: Device Address Input. 512-Mbit: A[25:1], 1-Gbit: A[26:1], 2-Gbit: A[27:1]. Note: The virtual selection of the upper 1-Gbit die in the dual-die 2-Gbit configuration is accomplished by setting A27 high (VIH)."
part B pins: E8 RFU "RESERVED FOR FUTURE USE: Reserved by Numonyx for future device functionality and enhancement. These should be treated in the same way as a Don’t Use (DU) signal.", F1 RFU "RESERVED FOR FUTURE USE: Reserved by Numonyx for future device functionality and enhancement. These should be treated in the same way as a Don’t Use (DU) signal.", G2 RFU "RESERVED FOR FUTURE USE: Reserved by Numonyx for future device functionality and enhancement. These should be treated in the same way as a Don’t Use (DU) signal.", H1 NC "NO CONNECT: No internal connection; can be driven or floated."
part C pins: A4 VPP (power) "ERASE AND PROGRAM POWER: A valid voltage on this pin allows erasing or programming. Memory contents cannot be altered when VPP =< VPPLK. Block erase and program at invalid VPP voltages should not be attempted. Set VPP = VPPL (See Datasheet)", A6 VCC (power) "DEVICE CORE POWER SUPPLY: Core (logic) source voltage. Writes to the flash array are inhibited when VCC =< VLKO. Operations at invalid VCC voltages should not be attempted.", B2 VSS (power) "GROUND: Connect to system ground. Do not float any VSS connection.", D5 VCCQ (power) "OUTPUT POWER SUPPLY: Output-driver source voltage.", D6 VCCQ (power) "OUTPUT POWER SUPPLY: Output-driver source voltage.", G4 VCCQ (power) "OUTPUT POWER SUPPLY: Output-driver source voltage.", H2 VSS (power) "GROUND: Connect to system ground. Do not float any VSS connection.", H3 VCC (power) "DEVICE CORE POWER SUPPLY: Core (logic) source voltage. Writes to the flash array are inhibited when VCC =< VLKO. Operations at invalid VCC voltages should not be attempted.", H4 VSS (power) "GROUND: Connect to system ground. Do not float any VSS connection.", H6 VSS (power) "GROUND: Connect to system ground. Do not float any VSS connection."